# Altium integrated library Motorola Peripheral Multifunction Controller.IntLib: 2 symbols
Pins are listed as number, name and electrical type; pins without a type are passive.

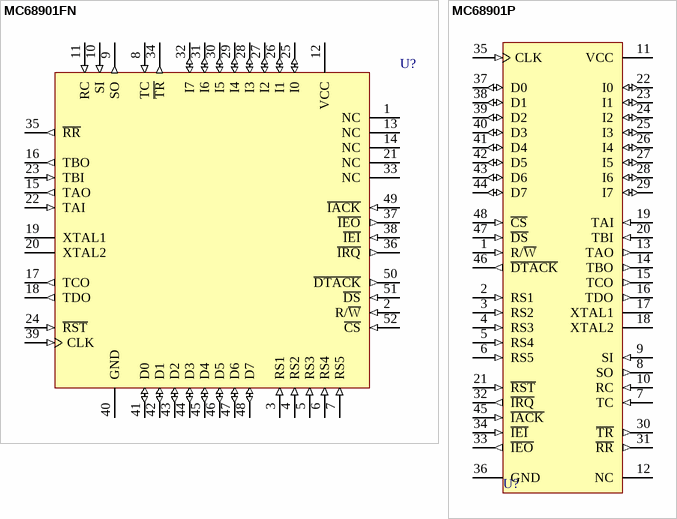
[diagram p0: symbols MC68901FN to MC68901P]

## MC68901FN
designator U?
Multifunction Peripheral; Published: 17-Jul-2002; LatestRevisionDate: 13-Apr-2006; LatestRevisionNote: IPC-7351 Footprint Added.; DatasheetVersion: 1990; PackageVersion: rev3, 1997; PackageReference: 778-02; Publisher: Altium Limited; PackageDescription: 52-Pin Plastic Leaded Chip Carrier 1.27 mm Pitch
footprint 778-02_N (Leaded Chip Carrier, 52-Leads, Body 19x19mm, Pitch 1.27mm, IPC Medium Density)
footprint 778-02_L (Leaded Chip Carrier, 52-Leads, Body 19x19mm, Pitch 1.27mm, IPC High Density)
footprint 778-02_M (Leaded Chip Carrier, 52-Leads, Body 19x19mm, Pitch 1.27mm, IPC Low Density)
3D model MC68901-778-02 (52-Pin Plastic Leaded Chip Carrier 1.27 mm Pitch)
pins: 1 NC, 2 R/~{W} (in), 3 RS1 (in), 4 RS2 (in), 5 RS3 (in), 6 RS4 (in), 7 RS5 (in), 8 TC (in), 9 SO (out), 10 SI (in), 11 RC (in), 12 VCC (power), 13 NC, 14 NC, 15 TAO (out), 16 TBO (out), 17 TCO (out), 18 TDO (out), 19 XTAL1, 20 XTAL2, 21 NC, 22 TAI (in), 23 TBI (in), 24 ~{RST} (in), 25 I0 (io), 26 I1 (io), 27 I2 (io), 28 I3 (io), 29 I4 (io), 30 I5 (io), 31 I6 (io), 32 I7 (io), 33 NC, 34 ~{TR} (out), 35 ~{RR} (out), 36 ~{IRQ} (out), 37 ~{IEO} (out), 38 ~{IEI} (in), 39 CLK (in), 40 GND (power), 41 D0 (io), 42 D1 (io), 43 D2 (io), 44 D3 (io), 45 D4 (io), 46 D5 (io), 47 D6 (io), 48 D7 (io), 49 ~{IACK} (in), 50 ~{DTACK} (out), 51 ~{DS} (in), 52 ~{CS} (in)

## MC68901P
designator U?
Multifunction Peripheral; Published: 17-Jul-2002; LatestRevisionDate: 06-Jun-2005; LatestRevisionNote: Stylized 3D Model Added.; DatasheetVersion: 1990; PackageReference: 767-02; Publisher: Altium Limited; PackageDescription: DIP; 48 Leads; Row Spacing 15.24 mm; Pitch 2.54 mm
footprint 767-02 (DIP; 48 Leads; Row Spacing 15.24 mm; Pitch 2.54 mm)
3D model 767-02 (DIP; 48 Leads; Row Spacing 15.24 mm; Pitch 2.54 mm)
pins: 1 R/~{W} (in), 2 RS1 (in), 3 RS2 (in), 4 RS3 (in), 5 RS4 (in), 6 RS5 (in), 7 TC (in), 8 SO (out), 9 SI (in), 10 RC (in), 11 VCC (power), 12 NC, 13 TAO (out), 14 TBO (out), 15 TCO (out), 16 TDO (out), 17 XTAL1, 18 XTAL2, 19 TAI (in), 20 TBI (in), 21 ~{RST} (in), 22 I0 (io), 23 I1 (io), 24 I2 (io), 25 I3 (io), 26 I4 (io), 27 I5 (io), 28 I6 (io), 29 I7 (io), 30 ~{TR} (out), 31 ~{RR} (out), 32 ~{IRQ} (out), 33 ~{IEO} (out), 34 ~{IEI} (in), 35 CLK (in), 36 GND (power), 37 D0 (io), 38 D1 (io), 39 D2 (io), 40 D3 (io), 41 D4 (io), 42 D5 (io), 43 D6 (io), 44 D7 (io), 45 ~{IACK} (in), 46 ~{DTACK} (out), 47 ~{DS} (in), 48 ~{CS} (in)